# EAGLE library part LTC4311 (library Deegou_IC)
LTC4311,I2C/SMBUS Accelerator,SC70-6 Linear Technology LTC4311CSC6#TRMPBF, Quad, Bus Buffer, 1.6 5.5 V, 6-Pin SC-70 Source: Datasheet <http://cds.linear.com/docs/en/datasheet/4311fa.pdf>
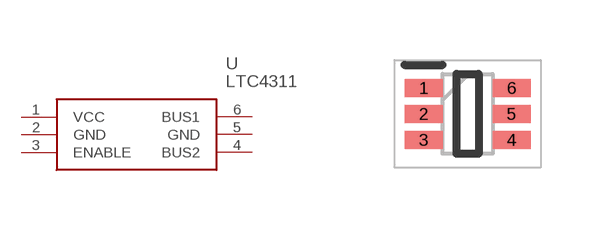
[diagram p146: symbol with the pads of SOP65P210X100-6N; footprint SOP65P210X100-6N]

Designator prefix U

## LTC4311 (ARROW_PART_NUMBER: LTC4311; ARROW_PRICE/STOCK: http://uk.rs-online.com/web/p/products/8580670; DESCRIPTION: LTC4311,I2C/SMBUS Accelerator,SC70-6 Linear Technology LTC4311CSC6#TRMPBF, Quad, Bus Buffer, 1.6 5.5 V, 6-Pin SC-70; HEIGHT: 1mm; MANUFACTURER_NAME: Linear Technology; MANUFACTURER_PART_NUMBER: LTC4311; RS_PART_NUMBER: 8580670; RS_PRICE/STOCK: http://uk.rs-online.com/web/p/products/8580670)  [SOP65P210X100-6N]
1  VCC  pwr
2  GND  pwr
3  ENABLE  in
4  BUS2
5  GND  pwr
6  BUS1

## Footprint SOP65P210X100-6N (pad centres in mm)
SC70
smd 0.95 x 0.45: 1 -1.1,0.65; 2 -1.1,0; 3 -1.1,-0.65; 4 1.1,-0.65; 5 1.1,0; 6 1.1,0.65